# EAGLE library part AD623 (library eric-custom)
AD623 Single-Supply, Rail-to-Rail, Low Cost Instrumentation Amplifier
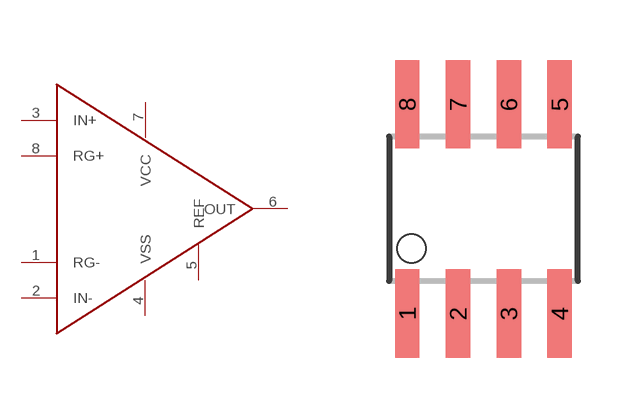
[diagram p8: symbol with the pads of SO08; footprint SO08]

Designator prefix -

## AD623  [SO08]
1  RG-
2  IN-
3  IN+
4  VSS
5  REF
6  OUT
7  VCC
8  RG+

## Footprint SO08 (pad centres in mm)
Small Outline Package
smd 0.61 x 2.21: 1 -1.905,-2.616; 2 -0.635,-2.616; 3 0.635,-2.616; 4 1.905,-2.616; 5 1.905,2.616; 6 0.635,2.616; 7 -0.635,2.616; 8 -1.905,2.616